# Altium schematic symbol library Schlib1.SchLib: 1 symbol
Pins are listed as number, name and electrical type; pins without a type are passive.

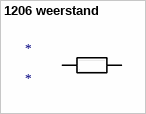
[diagram p0: symbol 1206 weerstand]

## 1206 weerstand
designator *
footprint FP-RC1206-IPC_C
pins: 1, 2